# EAGLE library part LT1529 (library linear-technology)
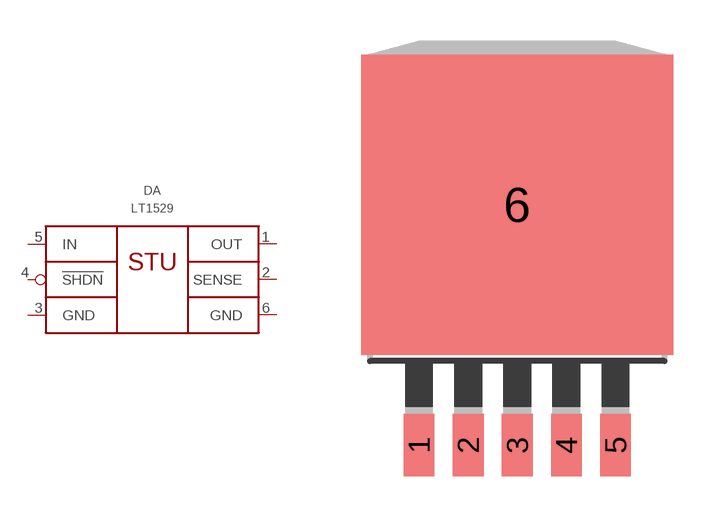
[diagram p12: symbol with the pads of TO263-5; footprint TO263-5]

Designator prefix DA

## LT1529CQ  [TO263-5]
1  OUT  pwr
2  SENSE  pas
3  GND  pwr
4  !SHDN  in
5  IN  pwr
6  GND  pwr

## LT1529CQ-3.3  [TO263-5]
Pads as for TO263-5

## LT1529CQ-5  [TO263-5]
Pads as for TO263-5

## LT1529IQ  [TO263-5]
Pads as for TO263-5

## LT1529IQ-3.3  [TO263-5]
Pads as for TO263-5

## LT1529IQ-5  [TO263-5]
Pads as for TO263-5

## Footprint TO263-5 (pad centres in mm)
TO-263
smd 1.067 x 2.159: 1 -3.404,-5.791; 2 -1.702,-5.791; 3 0,-5.791; 4 1.702,-5.791; 5 3.404,-5.791
smd 10.8 x 10.41: 6 0,2.54